# EAGLE library part USB_PLACEHOLDER (library USB_Port_Placeholder)
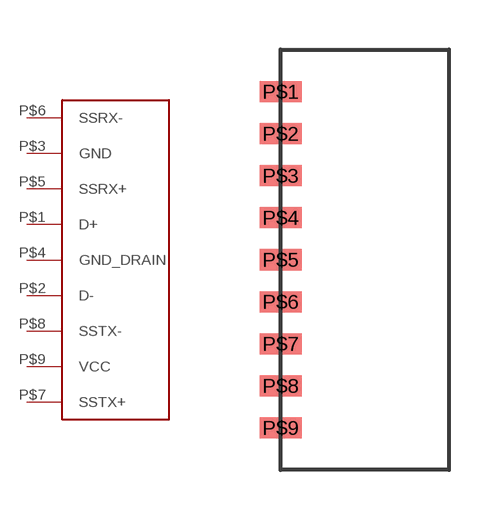
[diagram p0: symbol with the pads of DUMMY_FOOTPRINT; footprint DUMMY_FOOTPRINT]

Designator prefix -

## USB_PLACEHOLDER  [DUMMY_FOOTPRINT]
P$1  D+
P$2  D-
P$3  GND
P$4  GND_DRAIN
P$5  SSRX+
P$6  SSRX-
P$7  SSTX+
P$8  SSTX-
P$9  VCC

## Footprint DUMMY_FOOTPRINT (pad centres in mm)
smd 1.27 x 0.635: P$1 -12.7,6.35; P$2 -12.7,5.08; P$3 -12.7,3.81; P$4 -12.7,2.54; P$5 -12.7,1.27; P$6 -12.7,0; P$7 -12.7,-1.27; P$8 -12.7,-2.54; P$9 -12.7,-3.81